# EAGLE library part AYZ0202_MINI_DPDT_SWITCH (library FlashPCB_Switches)
AYZ0202 - CKSwitches AYZ Series Miniature Slide Switches, Vertical SMT DPDT Technical Specifications: Max Power: 1.2VA Max Voltage: 12VDC Max Current: 100mA Component Search: AYZ0202AGRLC <https://www.flashpcb.com/components> Datasheet: AYZ Series Miniature Slide Switches <https://www.ckswitches.com/media/1431/ayz.pdf>
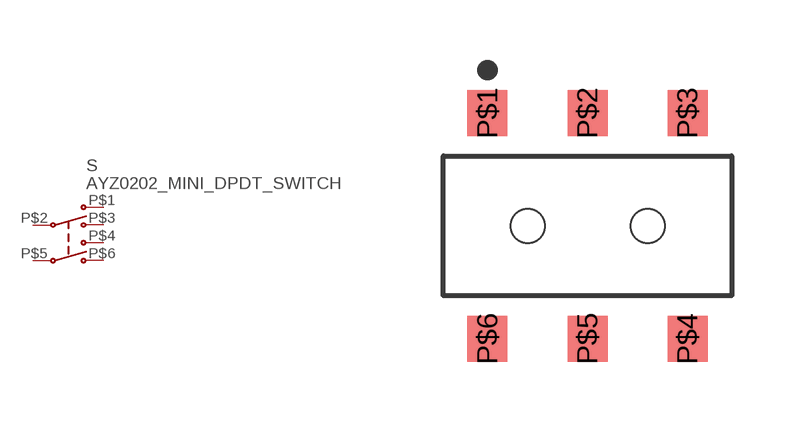
[diagram p1: symbol with the pads of AYZ0202; footprint AYZ0202]

Designator prefix S

## AYZ0202_MINI_DPDT_SWITCH0202  [AYZ0202]
P$1  P$2
P$2  P$1
P$3  P$3
P$4  P$5
P$5  P$4
P$6  P$6

## Footprint AYZ0202 (pad centres in mm)
smd 1 x 1.15: P$1 -2.5,2.825; P$2 0,2.825; P$3 2.5,2.825; P$4 2.5,-2.825; P$5 0,-2.825; P$6 -2.5,-2.825
hole 0.85 at -1.5,0
hole 0.85 at 1.5,0